# EAGLE library part ICSP (library Jaime_parts)
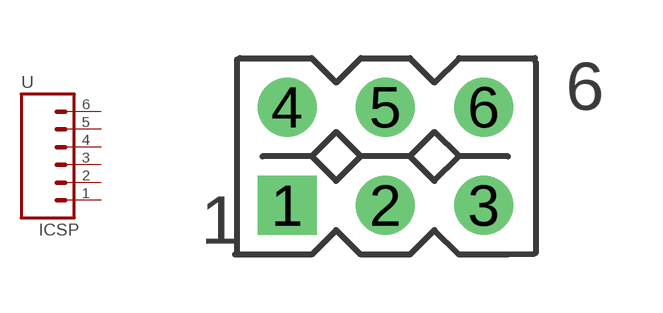
[diagram p1: symbol with the pads of ICSP; footprint ICSP]

Designator prefix -

## ICSP  [ICSP]
1  1  pas
2  2  pas
3  3  pas
4  4  pas
5  5  pas
6  6  pas

## Footprint ICSP (pad centres in mm)
drill 1.016 square: 1 -5.08,1.27
drill 1.016: 2 -2.54,1.27; 3 0,1.27; 4 -5.08,3.81; 5 -2.54,3.81; 6 0,3.81